# Altium integrated library Allegro Power Mgt Voltage Detector.IntLib: 1 symbol
Pins are listed as number, name and electrical type; pins without a type are passive.

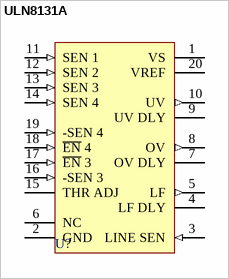
[diagram p0: symbol ULN8131A]

## ULN8131A
designator U?
Precision Supervisory Systems Monitor; Published: 13-Oct-2000; LatestRevisionDate: 06-Jun-2005; LatestRevisionNote: Stylized 3D Model Added.; DatasheetVersion: 1995; PackageVersion: 1995; PackageReference: A20; Publisher: Altium Limited; PackageDescription: DIP; 20 Leads; Row Spacing 7.62 mm; Pitch 2.54 mm; Code_JEDEC: MS-001-AD; ComponentLink1Description: Manufacturer Link; ComponentLink1URL: http://www.allegromicro.com/
footprint A20 (DIP; 20 Leads; Row Spacing 7.62 mm; Pitch 2.54 mm)
3D model A20 (DIP; 20 Leads; Row Spacing 7.62 mm; Pitch 2.54 mm)
pins: 1 VS (power), 2 GND (power), 3 LINE SEN (in), 4 LF DLY, 5 LF (out), 6 NC, 7 OV DLY, 8 OV (out), 9 UV DLY, 10 UV (out), 11 SEN 1 (in), 12 SEN 2 (in), 13 SEN 3 (in), 14 SEN 4 (in), 15 THR ADJ, 16 -SEN 3 (in), 17 ~{EN} 3 (in), 18 ~{EN} 4 (in), 19 -SEN 4 (in), 20 VREF